# EAGLE library part SOCKET-20 (library con-3m-skt-header)
20 pin PCB Socket (3m 85xx/51xx)
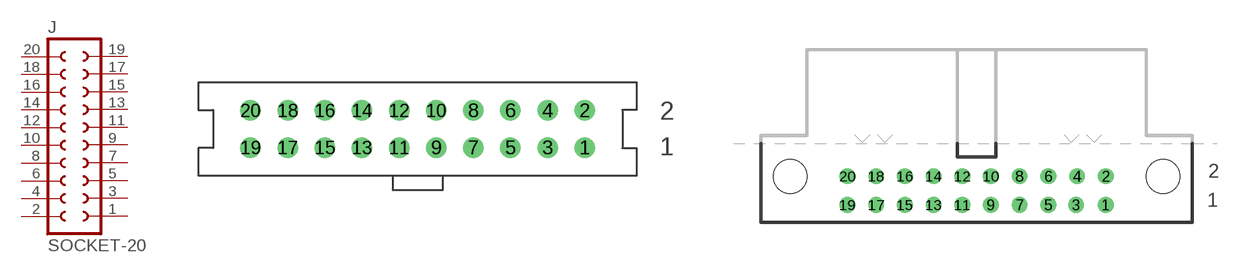
[diagram p0: symbol with the pads of S20V; footprints S20V, S20RA]

Designator prefix J

## SOCKET-20V  [S20V]
1  1  pas
2  2  pas
3  3  pas
4  4  pas
5  5  pas
6  6  pas
7  7  pas
8  8  pas
9  9  pas
10  10  pas
11  11  pas
12  12  pas
13  13  pas
14  14  pas
15  15  pas
16  16  pas
17  17  pas
18  18  pas
19  19  pas
20  20  pas

## SOCKET-20RA  [S20RA]
Pads as for S20V

## Footprint S20V (pad centres in mm)
20 pin Vertical PCB Socket 8520-xxxxx
drill 0.8 pad 1.4: 1 11.43,-1.27; 2 11.43,1.27; 3 8.89,-1.27; 4 8.89,1.27; 5 6.35,-1.27; 6 6.35,1.27; 7 3.81,-1.27; 8 3.81,1.27; 9 1.27,-1.27; 10 1.27,1.27; 11 -1.27,-1.27; 12 -1.27,1.27; 13 -3.81,-1.27; 14 -3.81,1.27; 15 -6.35,-1.27; 16 -6.35,1.27; 17 -8.89,-1.27; 18 -8.89,1.27; 19 -11.43,-1.27; 20 -11.43,1.27

## Footprint S20RA (pad centres in mm)
20 pin R/A PCB socket 3M 5120-xxxxx
drill 0.8 pad 1.4: 1 11.43,-5.44; 2 11.43,-2.9; 3 8.81,-5.44; 4 8.89,-2.9; 5 6.35,-5.44; 6 6.35,-2.9; 7 3.81,-5.44; 8 3.81,-2.9; 9 1.27,-5.44; 10 1.27,-2.9; 11 -1.27,-5.44; 12 -1.27,-2.9; 13 -3.81,-5.44; 14 -3.81,-2.9; 15 -6.35,-5.44; 16 -6.35,-2.9; 17 -8.89,-5.44; 18 -8.89,-2.9; 19 -11.43,-5.44; 20 -11.43,-2.9
hole 3 at -16.5,-2.9
hole 3 at 16.5,-2.9